# EAGLE library part INA209 (library DSDEagleLibrary)
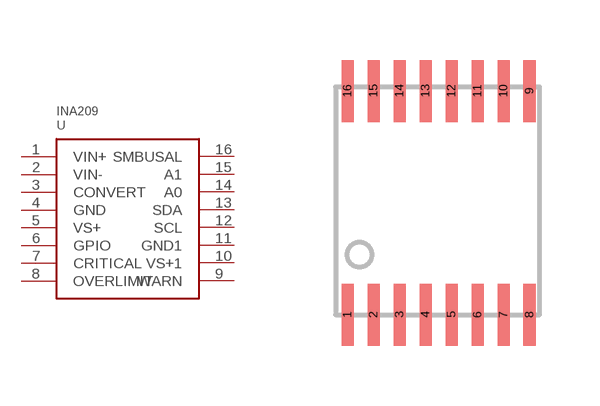
[diagram p11: symbol with the pads of INA209; footprint INA209]

Designator prefix -

## INA209  [INA209]
1  VIN+
2  VIN-
3  CONVERT
4  GND
5  VS+
6  GPIO
7  CRITICAL
8  OVERLIMIT
9  WARN
10  VS+1
11  GND1
12  SCL
13  SDA
14  A0
15  A1
16  SMBUSAL

## Footprint INA209 (pad centres in mm)
smd 0.3 x 1.55: 1 0,0; 2 0.65,0; 3 1.3,0; 4 1.95,0; 5 2.6,0; 6 3.25,0; 7 3.9,0; 8 4.55,0; 9 4.55,5.6; 10 3.9,5.6; 11 3.25,5.6; 12 2.6,5.6; 13 1.95,5.6; 14 1.3,5.6; 15 0.65,5.6; 16 0,5.6